# EAGLE library part HUZZAH32-ARTLIGHT (library artlight)
Adafruit Huzzah32 as used by artlight
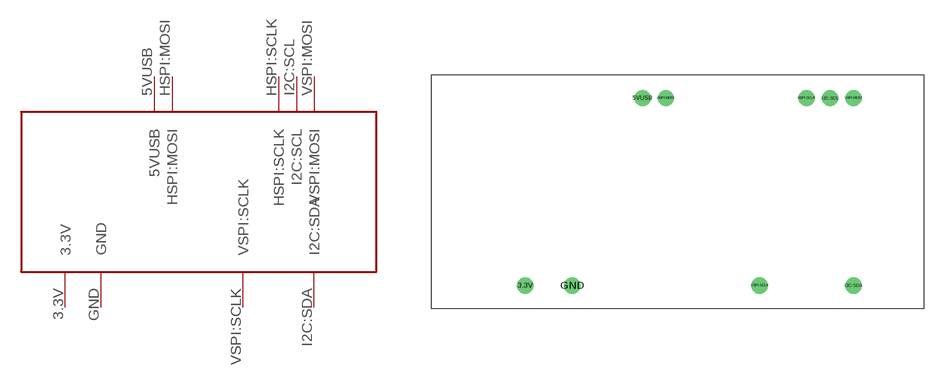
[diagram p0: symbol with the pads of FEATHERWING-ARTLIGHT; footprint FEATHERWING-ARTLIGHT]

Designator prefix -

## HUZZAH32-ARTLIGHT  [FEATHERWING-ARTLIGHT]
3.3V  3.3V
5VUSB  5VUSB
GND  GND
HSPI:MOSI  HSPI:MOSI
HSPI:SCLK  HSPI:SCLK
I2C:SCL  I2C:SCL
I2C:SDA  I2C:SDA
VSPI:MOSI  VSPI:MOSI
VSPI:SCLK  VSPI:SCLK

## Footprint FEATHERWING-ARTLIGHT (pad centres in mm)
Adafruit Featherwing for Huzzah32 as used by artlight
drill 1 pad 1.778: 3.3V -17.78,-10.16; 5VUSB -5.08,10.16; GND -12.7,-10.16; HSPI:MOSI -2.54,10.16; HSPI:SCLK 12.7,10.16; I2C:SCL 15.24,10.16; I2C:SDA 17.78,-10.16; VSPI:MOSI 17.78,10.16; VSPI:SCLK 7.62,-10.16